# Altium footprint library PcbLib1(1).PcbLib: 18 footprints (part 2 of 2)
Each footprint in its own frame and in the unit in brackets; x right, y up, seen from the top. Pads: shape width x height; smd on the part's side, far side on the other; paste and mask are expansions set on the pad; w line width, h text height; cw(c..) or ccw(c..) is an arc to the next point about the centre after c.
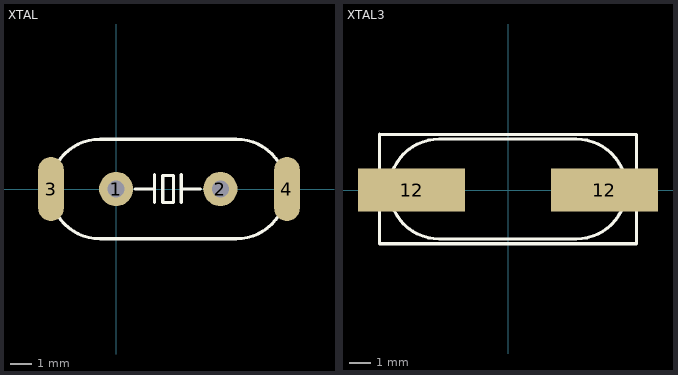
[diagram p1: the footprints below, top view; thin cyan lines are the x and y axes]

## XTAL [mil]
height 62.99
pads (4):
  round 62.99 hole 31.5: 1(0,0) 2(192.13,0)
  oval 47.24x118.11 smd: 3(-120,0) 4(315,0)
Top Overlay:
  lines w5.91: 35,0 70.87,0 ; 70.87,-25 70.87,26.18 ; 120,0 155,0 ; 120.2,-25 120.2,26.18 ; -29.92,-91.73 cw(c-29.92,0) -29.92,91.73 222.05,91.73 cw(c222.05,0) 222.05,-91.73 -29.92,-91.73 ; 86.06,-25 86.06,25 106.06,25 106.06,-25 86.06,-25

## XTAL3 [mm]
pads (2):
  rect 5x2 smd: 12(-4.5,0) 12(4.5,0)
Top Overlay:
  lines w0.15: -6,-2.5 -6,2.6 6,2.6 6,-2.5 -6,-2.5 ; -3.21,-2.28 cw(c-3.21,0.05) -3.21,2.38 3.19,2.38 cw(c3.19,0.05) 3.19,-2.28 -3.21,-2.28